# EAGLE library part SKY65116 (library custom)
RF Amplifier 0.39-0.5GHz 32.5dBm P1dB 35dB Gain 6dB NF 3.6V 1.3A
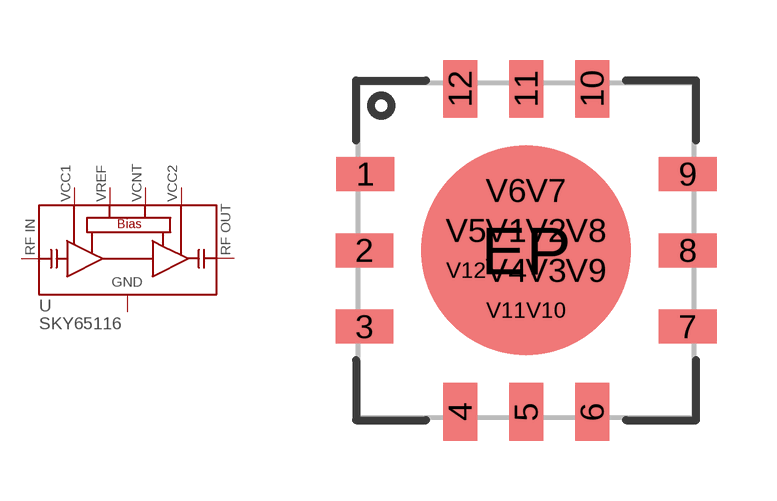
[diagram p64: symbol with the pads of 12-MCM; footprint 12-MCM]

Designator prefix U

## SKY65116  [12-MCM]
1  GND
2  RFIN
3  GND
4  VCC1
5  GND
6  GND
7  GND
8  RFOUT
9  GND
10  VCC2
11  VCNT
12  VREF
EP  GND
V1  GND
V2  GND
V3  GND
V4  GND
V5  GND
V6  GND
V7  GND
V8  GND
V9  GND
V10  GND
V11  GND
V12  GND

## Footprint 12-MCM (pad centres in mm)
smd 1.443 x 0.85: 1 -4.021,1.91; 2 -4.043,0; 3 -4.043,-1.91; 7 4.043,-1.91; 8 4.043,0; 9 4.043,1.91
smd 0.85 x 1.443: 4 -1.65,-4.043; 5 0,-4.043; 6 1.65,-4.043; 10 1.65,4.043; 11 0,4.043; 12 -1.65,4.043
smd 5.25 x 5.25: EP 0,0
drill 0.381: V1 -0.5,0.5; V2 0.5,0.5; V3 0.5,-0.5; V4 -0.5,-0.5; V5 -1.5,0.5; V6 -0.5,1.5; V7 0.5,1.5; V8 1.5,0.5; V9 1.5,-0.5; V10 0.5,-1.5; V11 -0.5,-1.5; V12 -1.5,-0.5